# Altium footprint library SWT-9.PcbLib: 1 footprints
Each footprint in its own frame and in the unit in brackets; x right, y up, seen from the top. Pads: shape width x height; smd on the part's side, far side on the other; paste and mask are expansions set on the pad; w line width, h text height; cw(c..) or ccw(c..) is an arc to the next point about the centre after c.
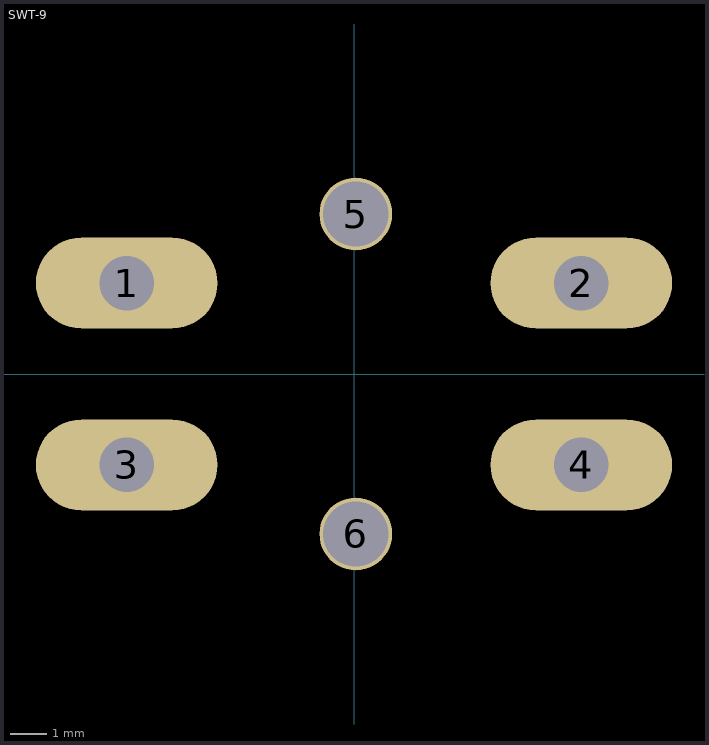
[diagram p0: the footprint, top view; thin cyan lines are the x and y axes]

## SWT-9 [mm]
pads (6):
  oval 5x2.5 hole 1.5: 1(-6.25,2.5) 2(6.25,2.5) 3(-6.25,-2.5) 4(6.25,-2.5)
  round 2 hole 1.8: 5(0.05,4.4) 6(0.05,-4.4)
Bottom Overlay:
  lines w0.254: -6.25,-6 6.25,-6 6.25,-4.5 5.25,-4.5 cw(c5.25,-2.5) 5.25,-0.5 6.25,-0.5 6.25,0.5 5.25,0.5 cw(c5.25,2.5) 5.25,4.5 6.25,4.5 6.25,6 -6.25,6 -6.25,4.5 -5.25,4.5 cw(c-5.25,2.5) -5.25,0.5 -6.25,0.5 -6.25,-0.5 -5.25,-0.5 cw(c-5.25,-2.5) -5.25,-4.5 -6.25,-4.5 -6.25,-6
3D body: height 9.5, standoff -3.5, extent -6.887,-6 6.986,6